# EAGLE library part LPC51U68 (library jason_eagle6)
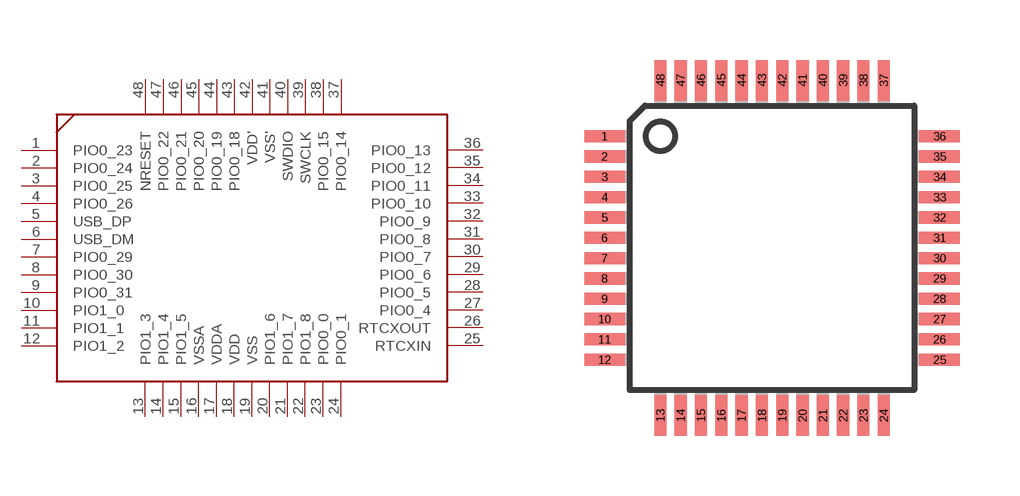
[diagram p44: symbol with the pads of TQFP48; footprint TQFP48]

Designator prefix -

## LPC51U68  [TQFP48]
1  PIO0_23
2  PIO0_24
3  PIO0_25
4  PIO0_26
5  USB_DP
6  USB_DM
7  PIO0_29
8  PIO0_30
9  PIO0_31
10  PIO1_0
11  PIO1_1
12  PIO1_2
13  PIO1_3
14  PIO1_4
15  PIO1_5
16  VSSA  pwr
17  VDDA  pwr
18  VDD  pwr
19  VSS  pwr
20  PIO1_6
21  PIO1_7
22  PIO1_8
23  PIO0_0
24  PIO0_1
25  RTCXIN
26  RTCXOUT
27  PIO0_4
28  PIO0_5
29  PIO0_6
30  PIO0_7
31  PIO0_8
32  PIO0_9
33  PIO0_10
34  PIO0_11
35  PIO0_12
36  PIO0_13
37  PIO0_14
38  PIO0_15
39  SWCLK
40  SWDIO
41  VSS'  pwr
42  VDD'  pwr
43  PIO0_18
44  PIO0_19
45  PIO0_20
46  PIO0_21
47  PIO0_22
48  NRESET

## Footprint TQFP48 (pad centres in mm)
Thin Plasic Quad Flat Package
smd 1.016 x 0.305: 1 -4.191,2.794; 2 -4.191,2.286; 3 -4.191,1.778; 4 -4.191,1.27; 5 -4.191,0.762; 6 -4.191,0.254; 7 -4.191,-0.254; 8 -4.191,-0.762; 9 -4.191,-1.27; 10 -4.191,-1.778; 11 -4.191,-2.286; 12 -4.191,-2.794; 25 4.191,-2.794; 26 4.191,-2.286; 27 4.191,-1.778; 28 4.191,-1.27; 29 4.191,-0.762; 30 4.191,-0.254; 31 4.191,0.254; 32 4.191,0.762; 33 4.191,1.27; 34 4.191,1.778; 35 4.191,2.286; 36 4.191,2.794
smd 0.305 x 1.016: 13 -2.794,-4.191; 14 -2.286,-4.191; 15 -1.778,-4.191; 16 -1.27,-4.191; 17 -0.762,-4.191; 18 -0.254,-4.191; 19 0.254,-4.191; 20 0.762,-4.191; 21 1.27,-4.191; 22 1.778,-4.191; 23 2.286,-4.191; 24 2.794,-4.191; 37 2.794,4.191; 38 2.286,4.191; 39 1.778,4.191; 40 1.27,4.191; 41 0.762,4.191; 42 0.254,4.191; 43 -0.254,4.191; 44 -0.762,4.191; 45 -1.27,4.191; 46 -1.778,4.191; 47 -2.286,4.191; 48 -2.794,4.191